# Altium schematic symbol library Schlib1.SchLib: 1 symbol
Pins are listed as number, name and electrical type; pins without a type are passive.

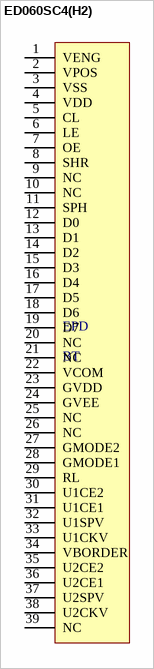
[diagram p0: symbol ED060SC4(H2)]

## ED060SC4(H2)
designator EPD, comment BT
Connector
footprint 39FXL - duplicate
pins: 1 VENG, 2 VPOS, 3 VSS, 4 VDD, 5 CL, 6 LE, 7 OE, 8 SHR, 9 NC, 10 NC, 11 SPH, 12 D0, 13 D1, 14 D2, 15 D3, 16 D4, 17 D5, 18 D6, 19 D7, 20 NC, 21 NC, 22 VCOM, 23 GVDD, 24 GVEE, 25 NC, 26 NC, 27 GMODE2, 28 GMODE1, 29 RL, 30 U1CE2, 31 U1CE1, 32 U1SPV, 33 U1CKV, 34 VBORDER, 35 U2CE2, 36 U2CE1, 37 U2SPV, 38 U2CKV, 39 NC